# Altium footprint library LGA16_3X3.PcbLib: 1 footprints
Each footprint in its own frame and in the unit in brackets; x right, y up, seen from the top. Pads: shape width x height; smd on the part's side, far side on the other; paste and mask are expansions set on the pad; w line width, h text height; cw(c..) or ccw(c..) is an arc to the next point about the centre after c.
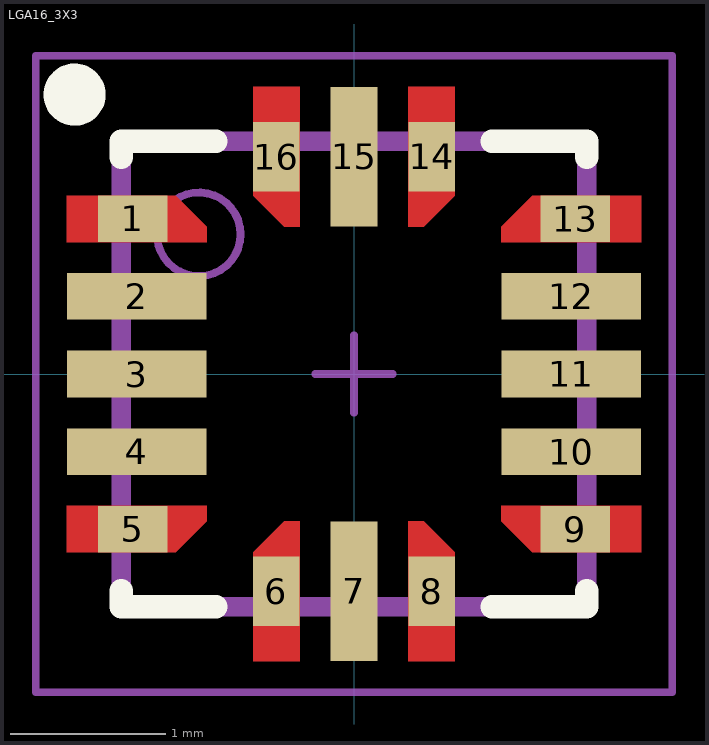
[diagram p0: the footprint, top view; thin cyan lines are the x and y axes]

## LGA16_3X3 [mm]
pads (16):
  rect 0.45x0.3 smd: 1(-1.425,1) 5(-1.425,-1) 9(1.425,-1) 13(1.425,1)
  rect 0.9x0.3 smd: 2(-1.4,0.5) 3(-1.4,0) 4(-1.4,-0.5) 10(1.4,-0.5) 11(1.4,0) 12(1.4,0.5)
  rect 0.3x0.45 smd: 6(-0.5,-1.4) 8(0.5,-1.4) 14(0.5,1.4) 16(-0.5,1.4)
  rect 0.3x0.9 smd: 7(0,-1.4) 15(0,1.4)
Top Layer:
  region: -0.65,1.85 -0.35,1.85 -0.35,0.95 -0.45,0.95 -0.65,1.15
  region: -1.85,1.15 -1.85,0.85 -0.95,0.85 -0.95,0.95 -1.15,1.15
  region: 0.65,1.85 0.35,1.85 0.35,0.95 0.45,0.95 0.65,1.15
  region: 1.85,1.15 1.85,0.85 0.95,0.85 0.95,0.95 1.15,1.15
  region: 1.85,-1.15 1.85,-0.85 0.95,-0.85 0.95,-0.95 1.15,-1.15
  region: 0.65,-1.85 0.35,-1.85 0.35,-0.95 0.45,-0.95 0.65,-1.15
  region: -1.85,-1.15 -1.85,-0.85 -0.95,-0.85 -0.95,-0.95 -1.15,-1.15
  region: -0.65,-1.85 -0.35,-1.85 -0.35,-0.95 -0.45,-0.95 -0.65,-1.15
Top Overlay:
  circle w0.2: c-1.8,1.8 r0.1
  lines w0.15: -1.5,-1.397 -1.5,-1.5 -0.889,-1.5 ; -1.5,1.397 -1.5,1.5 -0.889,1.5 ; 0.889,-1.5 1.5,-1.5 1.5,-1.397 ; 0.889,1.5 1.5,1.5 1.5,1.397
Mechanical 13:
  circle w0.05: c-1,0.9 r0.269
  lines w0.05: -1.5,-1.5 -1.5,1.5 1.5,1.5 1.5,-1.5 -1.5,-1.5
Mechanical 15:
  lines w0.05: -0.25,0 0.25,0 ; 0,-0.25 0,0.25 ; -2.05,-2.05 -2.05,2.05 2.05,2.05 2.05,-2.05 -2.05,-2.05
Mechanical 29:
  lines w0.127: -1.5,-1.5 1.5,-1.5 1.5,1.5 -1.5,1.5 -1.5,-1.5
  text ".Designator" at -0.8,-0.5 h1.52
3D body: height 1, standoff -0.05, extent -1.5,-1.5 1.5,1.5